# Altium schematic symbol library PNP_SOT23.SchLib: 1 symbol
Pins are listed as number, name and electrical type; pins without a type are passive.

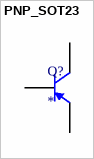
[diagram p0: symbol PNP_SOT23]

## PNP_SOT23
designator Q?
pins: 1 B, 2 E, 3 C